# Altium integrated library Linear Technology Power Management PMIC Multifunction.IntLib: 360 symbols (part 39 of 42)
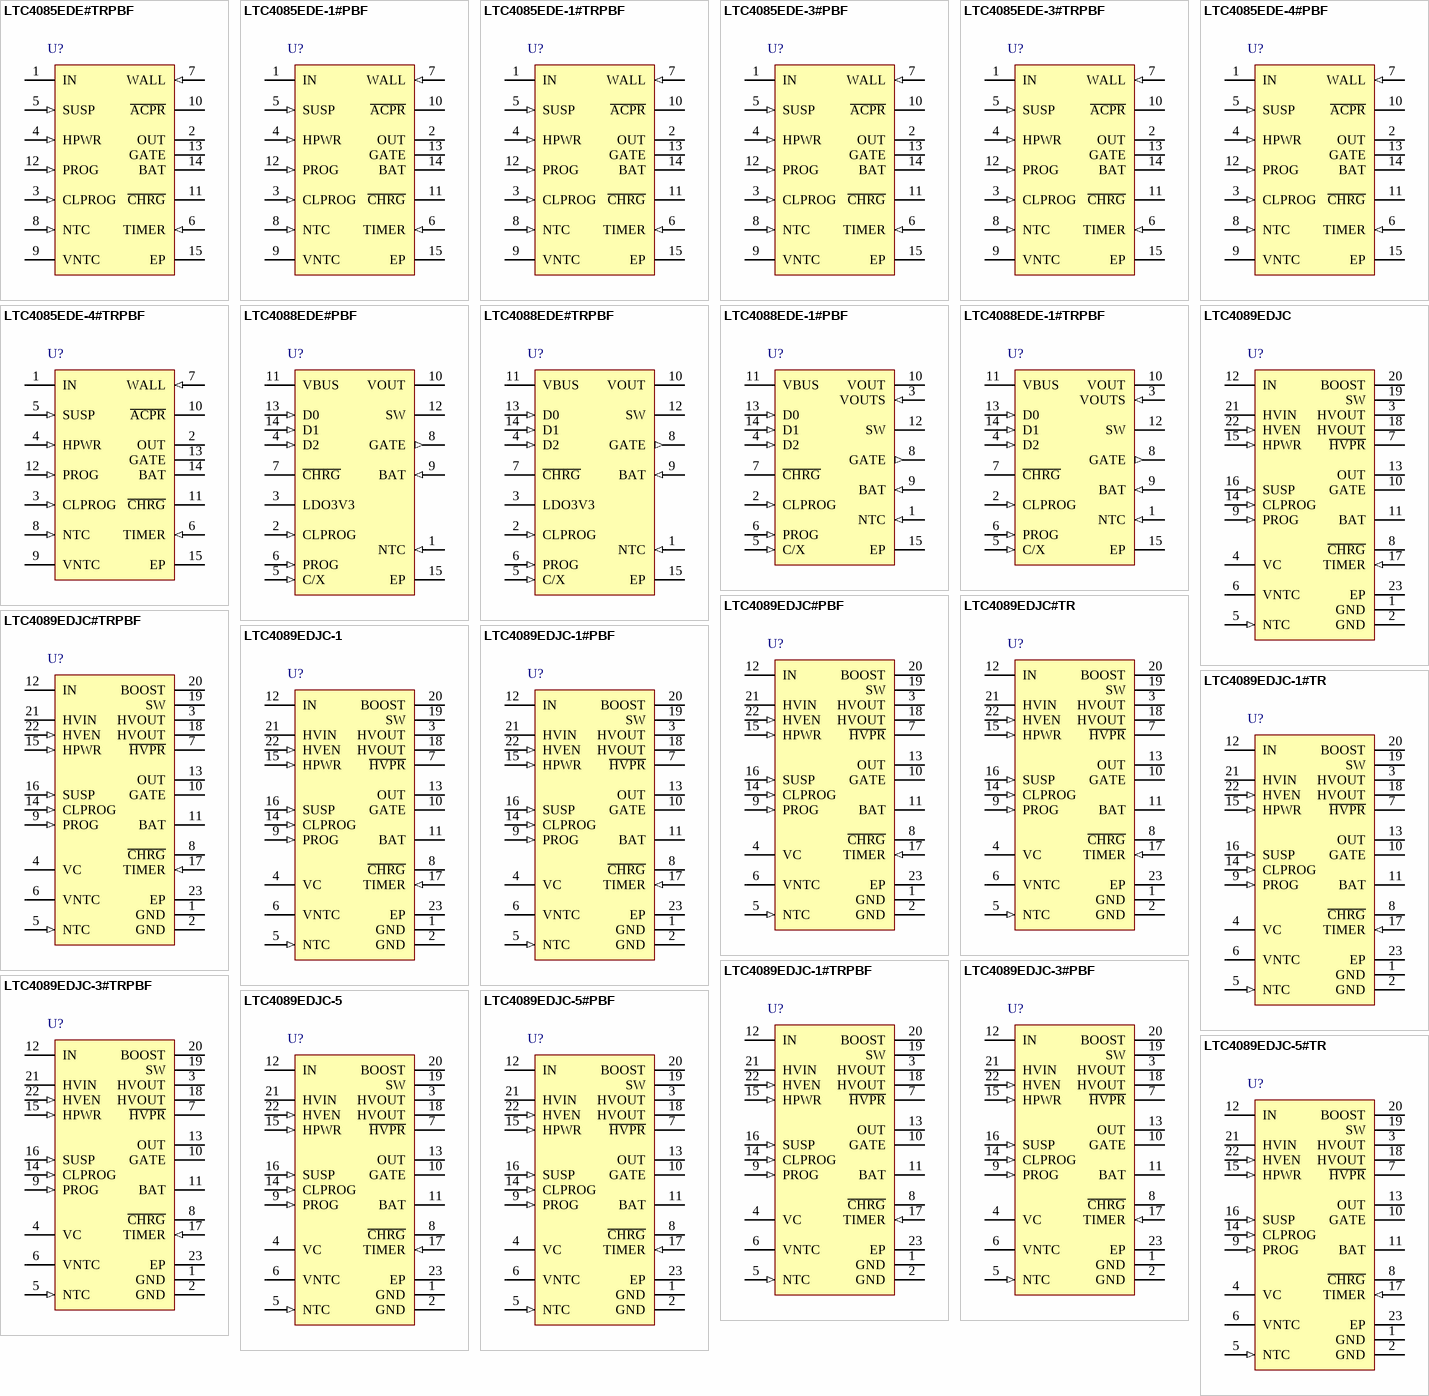
[diagram p56: symbols LTC4085EDE#TRPBF to LTC4089EDJC-5#TR]

## LTC4089EDJC-1#TRPBF
designator U?
USB Power Manager with High Voltage Switching Charger, 6 to 36 V Vin, 22-pin SON (DJC-22), -40 to 85 degC, Pb-Free, Tape and Reel; Manufacturer: Linear Technology; PartNumber: LTC4089EDJC-1#TRPBF; Number of Cells: 1; DatasheetVersion: Rev. A; PackageVersion: Jun-10; PackageReference: DJC22; PackageDescription: 22-Pin Plastic DFN, Body 6 x 3 mm, Pitch 0.5 mm; Supplier 1: Digi-Key; Supplier Part Number 1: LTC4089EDJC-1#TRPBF-ND; Number of Outputs: 1; Packing: Tape and Reel; RoHS: TRUE; Mounting Technology: Surface Mount; Code_JEDEC: MO-229; ComponentLink1Description: Manufacturer URL; ComponentLink1URL: http://www.linear.com/; ComponentLink2Description: Datasheet; ComponentLink2URL: http://cds.linear.com/docs/en/datasheet/40891fa.pdf; ComponentLink3Description: Package Specification; ComponentLink3URL: http://www.linear.com/docs/en/packaging/DFN_22_05-08-1714.pdf
footprint LT-DJC-22_V (SON, 22-Leads, Body 6x3mm, Pitch 0.5mm, Thermal Pad 5.35x1.65mm)
pins: 1 GND (power), 2 GND (power), 3 HVOUT (power), 4 VC, 5 NTC (in), 6 VNTC "Output Bias Voltage for NTC. A resistor from this pin to the NTC pin will bias the NTC thermistor.", 7 ~{HVPR} (oc), 8 ~{CHRG} (hiz) "Open-Drain Charge Status Output. When the battery is being charged, the C\H\R\G\ pin is pulled low by an internal N-channel MOSFET. When the timer runs out or the charge current drops below 10% of the programmed charge (See Datasheet)", 9 PROG (in), 10 GATE (hiz), 11 BAT (power), 12 IN (power) "Input Supply. Connect to USB supply, VBUS. Input current to this pin is limited to either 20% or 100% of the current programmed by the CLPROG pin as determined by the state of the HPWR pin. Charge current (to the BAT pin) (See Datasheet)", 13 OUT (power) "Voltage Output. This pin is used to provide controlled power to a USB device from either USB VBUS (IN), an external high voltage supply (HVIN), or the battery (BAT) when no other supply is present. The high voltage supply is (See Datasheet)", 14 CLPROG (in), 15 HPWR (in) "High Power Select. This logic input is used to control the input current limit. A voltage greater than 2.3V on the pin will set the input current limit to 100% of the current programmed by the CLPROG pin. A voltage less than (See Datasheet)", 16 SUSP (in), 17 TIMER (in), 18 HVOUT (power), 19 SW (power) "The SW pin is the output of the internal high voltage power switch. Connect this pin to the inductor, catch diode and boost capacitor.", 20 BOOST "The BOOST pin is used to provide a drive voltage, higher than the input voltage, to the internal bipolar NPN power switch.", 21 HVIN (power) "The HVIN pin supplies current to the internal high voltage regulator and to the internal high voltage power switch. The presence of a high voltage input takes priority over the USB VBUS input (i.e., when a high voltage input (See Datasheet)", 22 HVEN (in) "The HVEN pin is used to disable the high voltage input path. Tie to ground to disable the high voltage input or tie to at least 2.3V to enable the high voltage path. If this feature is not used, tie to the HVIN pin. This pin (See Datasheet)", 23 EP (power)

## LTC4089EDJC-3#PBF
designator U?
USB Power Manager with High Voltage Switching Charger, 6 to 36 V Vin, 22-pin SON (DJC-22), -40 to 85 degC, Pb-Free; Manufacturer: Linear Technology; PartNumber: LTC4089EDJC-3#PBF; Number of Cells: 1; Vin Max(V): 36; Vin Min(V): 6; PackageVersion: Jun-10; PackageReference: DJC22; PackageDescription: 22-Pin Plastic DFN, Body 6 x 3 mm, Pitch 0.5 mm; Supplier 1: Digi-Key; Supplier Part Number 1: LTC4089EDJC-3#PBF-ND; Supplier 2: Farnell; Supplier Part Number 2: 2322424; Supplier 3: Newark; Supplier Part Number 3: 72W1174; Number of Outputs: 1; RoHS: TRUE; Mounting Technology: Surface Mount; Code_JEDEC: MO-229; ComponentLink1Description: Manufacturer URL; ComponentLink1URL: http://www.linear.com/; ComponentLink2Description: Datasheet; ComponentLink2URL: http://cds.linear.com/docs/en/datasheet/40893f.pdf; ComponentLink3Description: Package Specification; ComponentLink3URL: http://www.linear.com/docs/en/packaging/DFN_22_05-08-1714.pdf
footprint LT-DJC-22_V (SON, 22-Leads, Body 6x3mm, Pitch 0.5mm, Thermal Pad 5.35x1.65mm)
pins: 1 GND (power), 2 GND (power), 3 HVOUT (power), 4 VC, 5 NTC (in), 6 VNTC "Output Bias Voltage for NTC. A resistor from this pin to the NTC pin will bias the NTC thermistor.", 7 ~{HVPR} (oc), 8 ~{CHRG} (hiz) "Open-Drain Charge Status Output. When the battery is being charged, the C\H\R\G\ pin is pulled low by an internal N-channel MOSFET. When the timer runs out or the charge current drops below 10% of the programmed charge (See Datasheet)", 9 PROG (in), 10 GATE (hiz), 11 BAT (power), 12 IN (power) "Input Supply. Connect to USB supply, VBUS. Input current to this pin is limited to either 20% or 100% of the current programmed by the CLPROG pin as determined by the state of the HPWR pin. Charge current (to the BAT pin) (See Datasheet)", 13 OUT (power) "Voltage Output. This pin is used to provide controlled power to a USB device from either USB VBUS (IN), an external high voltage supply (HVIN), or the battery (BAT) when no other supply is present. The high voltage supply is (See Datasheet)", 14 CLPROG (in), 15 HPWR (in) "High Power Select. This logic input is used to control the input current limit. A voltage greater than 2.3V on the pin will set the input current limit to 100% of the current programmed by the CLPROG pin. A voltage less than (See Datasheet)", 16 SUSP (in), 17 TIMER (in), 18 HVOUT (power), 19 SW (power) "The SW pin is the output of the internal high voltage power switch. Connect this pin to the inductor, catch diode and boost capacitor.", 20 BOOST "The BOOST pin is used to provide a drive voltage, higher than the input voltage, to the internal bipolar NPN power switch.", 21 HVIN (power) "The HVIN pin supplies current to the internal high voltage regulator and to the internal high voltage power switch. The presence of a high voltage input takes priority over the USB VBUS input (i.e., when a high voltage input (See Datasheet)", 22 HVEN (in) "The HVEN pin is used to disable the high voltage input path. Tie to ground to disable the high voltage input or tie to at least 2.3V to enable the high voltage path. If this feature is not used, tie to the HVIN pin. This pin (See Datasheet)", 23 EP (power)

## LTC4089EDJC-3#TRPBF
designator U?
USB Power Manager with High Voltage Switching Charger, 6 to 36 V Vin, 22-pin SON (DJC-22), -40 to 85 degC, Pb-Free, Tape and Reel; Manufacturer: Linear Technology; PartNumber: LTC4089EDJC-3#TRPBF; Number of Cells: 1; Vin Max(V): 36; Vin Min(V): 6; PackageVersion: Jun-10; PackageReference: DJC22; PackageDescription: 22-Pin Plastic DFN, Body 6 x 3 mm, Pitch 0.5 mm; Supplier 1: Digi-Key; Supplier Part Number 1: LTC4089EDJC-3#TRPBF-ND; Supplier 2: Newark; Supplier Part Number 2: 72W1175; Number of Outputs: 1; Packing: Tape and Reel; RoHS: TRUE; Mounting Technology: Surface Mount; Code_JEDEC: MO-229; ComponentLink1Description: Manufacturer URL; ComponentLink1URL: http://www.linear.com/; ComponentLink2Description: Datasheet; ComponentLink2URL: http://cds.linear.com/docs/en/datasheet/40893f.pdf; ComponentLink3Description: Package Specification; ComponentLink3URL: http://www.linear.com/docs/en/packaging/DFN_22_05-08-1714.pdf
footprint LT-DJC-22_V (SON, 22-Leads, Body 6x3mm, Pitch 0.5mm, Thermal Pad 5.35x1.65mm)
pins: 1 GND (power), 2 GND (power), 3 HVOUT (power), 4 VC, 5 NTC (in), 6 VNTC "Output Bias Voltage for NTC. A resistor from this pin to the NTC pin will bias the NTC thermistor.", 7 ~{HVPR} (oc), 8 ~{CHRG} (hiz) "Open-Drain Charge Status Output. When the battery is being charged, the C\H\R\G\ pin is pulled low by an internal N-channel MOSFET. When the timer runs out or the charge current drops below 10% of the programmed charge (See Datasheet)", 9 PROG (in), 10 GATE (hiz), 11 BAT (power), 12 IN (power) "Input Supply. Connect to USB supply, VBUS. Input current to this pin is limited to either 20% or 100% of the current programmed by the CLPROG pin as determined by the state of the HPWR pin. Charge current (to the BAT pin) (See Datasheet)", 13 OUT (power) "Voltage Output. This pin is used to provide controlled power to a USB device from either USB VBUS (IN), an external high voltage supply (HVIN), or the battery (BAT) when no other supply is present. The high voltage supply is (See Datasheet)", 14 CLPROG (in), 15 HPWR (in) "High Power Select. This logic input is used to control the input current limit. A voltage greater than 2.3V on the pin will set the input current limit to 100% of the current programmed by the CLPROG pin. A voltage less than (See Datasheet)", 16 SUSP (in), 17 TIMER (in), 18 HVOUT (power), 19 SW (power) "The SW pin is the output of the internal high voltage power switch. Connect this pin to the inductor, catch diode and boost capacitor.", 20 BOOST "The BOOST pin is used to provide a drive voltage, higher than the input voltage, to the internal bipolar NPN power switch.", 21 HVIN (power) "The HVIN pin supplies current to the internal high voltage regulator and to the internal high voltage power switch. The presence of a high voltage input takes priority over the USB VBUS input (i.e., when a high voltage input (See Datasheet)", 22 HVEN (in) "The HVEN pin is used to disable the high voltage input path. Tie to ground to disable the high voltage input or tie to at least 2.3V to enable the high voltage path. If this feature is not used, tie to the HVIN pin. This pin (See Datasheet)", 23 EP (power)

## LTC4089EDJC-5
designator U?
USB Power Manager with High Voltage Switching Charger, Fixed 5 V Output, 6 to 36 V Vin, 22-pin SON (DJC-22), -40 to 85 degC; Manufacturer: Linear Technology; PartNumber: LTC4089EDJC-5; Number of Cells: 1; DatasheetVersion: Rev. C; PackageVersion: Jun-10; PackageReference: DJC22; PackageDescription: 22-Pin Plastic DFN, Body 6 x 3 mm, Pitch 0.5 mm; Number of Outputs: 1; RoHS: FALSE; Mounting Technology: Surface Mount; Code_JEDEC: MO-229; ComponentLink1Description: Manufacturer URL; ComponentLink1URL: http://www.linear.com/; ComponentLink2Description: Datasheet; ComponentLink2URL: http://cds.linear.com/docs/en/datasheet/40895fc.pdf; ComponentLink3Description: Package Specification; ComponentLink3URL: http://www.linear.com/docs/en/packaging/DFN_22_05-08-1714.pdf
footprint LT-DJC-22_V (SON, 22-Leads, Body 6x3mm, Pitch 0.5mm, Thermal Pad 5.35x1.65mm)
pins: 1 GND (power), 2 GND (power), 3 HVOUT (power), 4 VC, 5 NTC (in), 6 VNTC "Output Bias Voltage for NTC. A resistor from this pin to the NTC pin will bias the NTC thermistor.", 7 ~{HVPR} (oc), 8 ~{CHRG} (hiz) "Open-Drain Charge Status Output. When the battery is being charged, the C\H\R\G\ pin is pulled low by an internal N-channel MOSFET. When the timer runs out or the charge current drops below 10% of the programmed charge (See Datasheet)", 9 PROG (in), 10 GATE (hiz), 11 BAT (power), 12 IN (power) "Input Supply. Connect to USB supply, VBUS. Input current to this pin is limited to either 20% or 100% of the current programmed by the CLPROG pin as determined by the state of the HPWR pin. Charge current (to the BAT pin) (See Datasheet)", 13 OUT (power) "Voltage Output. This pin is used to provide controlled power to a USB device from either USB VBUS (IN), an external high voltage supply (HVIN), or the battery (BAT) when no other supply is present. The high voltage supply is (See Datasheet)", 14 CLPROG (in), 15 HPWR (in) "High Power Select. This logic input is used to control the input current limit. A voltage greater than 2.3V on the pin will set the input current limit to 100% of the current programmed by the CLPROG pin. A voltage less than (See Datasheet)", 16 SUSP (in), 17 TIMER (in), 18 HVOUT (power), 19 SW (power) "The SW pin is the output of the internal high voltage power switch. Connect this pin to the inductor, catch diode and boost capacitor.", 20 BOOST "The BOOST pin is used to provide a drive voltage, higher than the input voltage, to the internal bipolar NPN power switch.", 21 HVIN (power) "The HVIN pin supplies current to the internal high voltage regulator and to the internal high voltage power switch. The presence of a high voltage input takes priority over the USB VBUS input (i.e., when a high voltage input (See Datasheet)", 22 HVEN (in) "The HVEN pin is used to disable the high voltage input path. Tie to ground to disable the high voltage input or tie to at least 2.3V to enable the high voltage path. If this feature is not used, tie to the HVIN pin. This pin (See Datasheet)", 23 EP (power)

## LTC4089EDJC-5#PBF
designator U?
USB Power Manager with High Voltage Switching Charger, Fixed 5 V Output, 6 to 36 V Vin, 22-pin SON (DJC-22), -40 to 85 degC, Pb-Free; Manufacturer: Linear Technology; PartNumber: LTC4089EDJC-5#PBF; Number of Cells: 1; DatasheetVersion: Rev. C; PackageVersion: Jun-10; PackageReference: DJC22; PackageDescription: 22-Pin Plastic DFN, Body 6 x 3 mm, Pitch 0.5 mm; Supplier 1: Digi-Key; Supplier Part Number 1: LTC4089EDJC-5#PBF-ND; Number of Outputs: 1; RoHS: TRUE; Mounting Technology: Surface Mount; Code_JEDEC: MO-229; ComponentLink1Description: Manufacturer URL; ComponentLink1URL: http://www.linear.com/; ComponentLink2Description: Datasheet; ComponentLink2URL: http://cds.linear.com/docs/en/datasheet/40895fc.pdf; ComponentLink3Description: Package Specification; ComponentLink3URL: http://www.linear.com/docs/en/packaging/DFN_22_05-08-1714.pdf
footprint LT-DJC-22_V (SON, 22-Leads, Body 6x3mm, Pitch 0.5mm, Thermal Pad 5.35x1.65mm)
pins: 1 GND (power), 2 GND (power), 3 HVOUT (power), 4 VC, 5 NTC (in), 6 VNTC "Output Bias Voltage for NTC. A resistor from this pin to the NTC pin will bias the NTC thermistor.", 7 ~{HVPR} (oc), 8 ~{CHRG} (hiz) "Open-Drain Charge Status Output. When the battery is being charged, the C\H\R\G\ pin is pulled low by an internal N-channel MOSFET. When the timer runs out or the charge current drops below 10% of the programmed charge (See Datasheet)", 9 PROG (in), 10 GATE (hiz), 11 BAT (power), 12 IN (power) "Input Supply. Connect to USB supply, VBUS. Input current to this pin is limited to either 20% or 100% of the current programmed by the CLPROG pin as determined by the state of the HPWR pin. Charge current (to the BAT pin) (See Datasheet)", 13 OUT (power) "Voltage Output. This pin is used to provide controlled power to a USB device from either USB VBUS (IN), an external high voltage supply (HVIN), or the battery (BAT) when no other supply is present. The high voltage supply is (See Datasheet)", 14 CLPROG (in), 15 HPWR (in) "High Power Select. This logic input is used to control the input current limit. A voltage greater than 2.3V on the pin will set the input current limit to 100% of the current programmed by the CLPROG pin. A voltage less than (See Datasheet)", 16 SUSP (in), 17 TIMER (in), 18 HVOUT (power), 19 SW (power) "The SW pin is the output of the internal high voltage power switch. Connect this pin to the inductor, catch diode and boost capacitor.", 20 BOOST "The BOOST pin is used to provide a drive voltage, higher than the input voltage, to the internal bipolar NPN power switch.", 21 HVIN (power) "The HVIN pin supplies current to the internal high voltage regulator and to the internal high voltage power switch. The presence of a high voltage input takes priority over the USB VBUS input (i.e., when a high voltage input (See Datasheet)", 22 HVEN (in) "The HVEN pin is used to disable the high voltage input path. Tie to ground to disable the high voltage input or tie to at least 2.3V to enable the high voltage path. If this feature is not used, tie to the HVIN pin. This pin (See Datasheet)", 23 EP (power)

## LTC4089EDJC-5#TR
designator U?
USB Power Manager with High Voltage Switching Charger, Fixed 5 V Output, 6 to 36 V Vin, 22-pin SON (DJC-22), -40 to 85 degC, Tape and Reel; Manufacturer: Linear Technology; PartNumber: LTC4089EDJC-5#TR; Number of Cells: 1; Vin Max(V): 36; Vin Min(V): 6; DatasheetVersion: Rev. C; PackageVersion: Jun-10; PackageReference: DJC22; PackageDescription: 22-Pin Plastic DFN, Body 6 x 3 mm, Pitch 0.5 mm; Number of Outputs: 1; Packing: Tape and Reel; RoHS: FALSE; Mounting Technology: Surface Mount; Code_JEDEC: MO-229; ComponentLink1Description: Manufacturer URL; ComponentLink1URL: http://www.linear.com/; ComponentLink2Description: Datasheet; ComponentLink2URL: http://cds.linear.com/docs/en/datasheet/40895fc.pdf; ComponentLink3Description: Package Specification; ComponentLink3URL: http://www.linear.com/docs/en/packaging/DFN_22_05-08-1714.pdf
footprint LT-DJC-22_V (SON, 22-Leads, Body 6x3mm, Pitch 0.5mm, Thermal Pad 5.35x1.65mm)
pins: 1 GND (power), 2 GND (power), 3 HVOUT (power), 4 VC, 5 NTC (in), 6 VNTC "Output Bias Voltage for NTC. A resistor from this pin to the NTC pin will bias the NTC thermistor.", 7 ~{HVPR} (oc), 8 ~{CHRG} (hiz) "Open-Drain Charge Status Output. When the battery is being charged, the C\H\R\G\ pin is pulled low by an internal N-channel MOSFET. When the timer runs out or the charge current drops below 10% of the programmed charge (See Datasheet)", 9 PROG (in), 10 GATE (hiz), 11 BAT (power), 12 IN (power) "Input Supply. Connect to USB supply, VBUS. Input current to this pin is limited to either 20% or 100% of the current programmed by the CLPROG pin as determined by the state of the HPWR pin. Charge current (to the BAT pin) (See Datasheet)", 13 OUT (power) "Voltage Output. This pin is used to provide controlled power to a USB device from either USB VBUS (IN), an external high voltage supply (HVIN), or the battery (BAT) when no other supply is present. The high voltage supply is (See Datasheet)", 14 CLPROG (in), 15 HPWR (in) "High Power Select. This logic input is used to control the input current limit. A voltage greater than 2.3V on the pin will set the input current limit to 100% of the current programmed by the CLPROG pin. A voltage less than (See Datasheet)", 16 SUSP (in), 17 TIMER (in), 18 HVOUT (power), 19 SW (power) "The SW pin is the output of the internal high voltage power switch. Connect this pin to the inductor, catch diode and boost capacitor.", 20 BOOST "The BOOST pin is used to provide a drive voltage, higher than the input voltage, to the internal bipolar NPN power switch.", 21 HVIN (power) "The HVIN pin supplies current to the internal high voltage regulator and to the internal high voltage power switch. The presence of a high voltage input takes priority over the USB VBUS input (i.e., when a high voltage input (See Datasheet)", 22 HVEN (in) "The HVEN pin is used to disable the high voltage input path. Tie to ground to disable the high voltage input or tie to at least 2.3V to enable the high voltage path. If this feature is not used, tie to the HVIN pin. This pin (See Datasheet)", 23 EP (power)

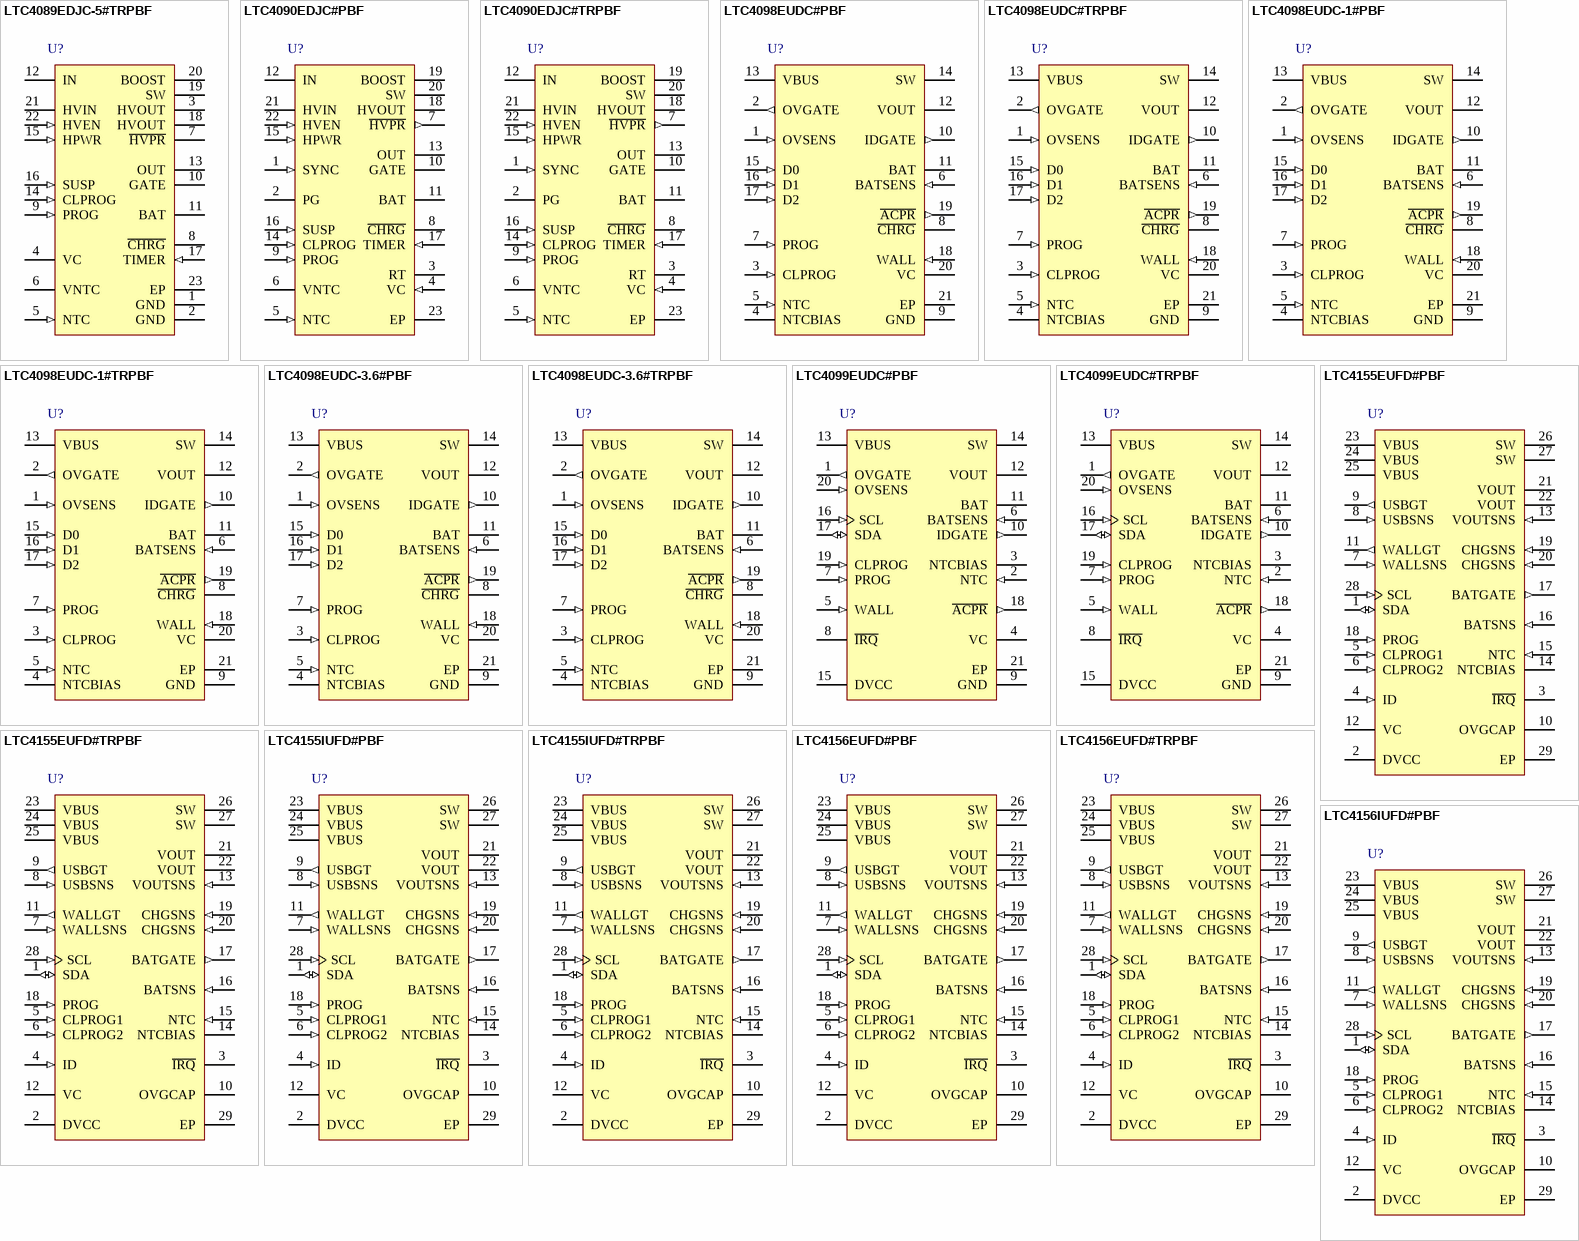
[diagram p17: symbols LTC4089EDJC-5#TRPBF to LTC4156IUFD#PBF]

## LTC4089EDJC-5#TRPBF
designator U?
USB Power Manager with High Voltage Switching Charger, Fixed 5 V Output, 6 to 36 V Vin, 22-pin SON (DJC-22), -40 to 85 degC, Pb-Free, Tape and Reel; Manufacturer: Linear Technology; PartNumber: LTC4089EDJC-5#TRPBF; Number of Cells: 1; Vin Max(V): 36; Vin Min(V): 6; DatasheetVersion: Rev. C; PackageVersion: Jun-10; PackageReference: DJC22; PackageDescription: 22-Pin Plastic DFN, Body 6 x 3 mm, Pitch 0.5 mm; Supplier 1: Digi-Key; Supplier Part Number 1: LTC4089EDJC-5#TRPBF-ND; Number of Outputs: 1; Packing: Tape and Reel; RoHS: TRUE; Mounting Technology: Surface Mount; Code_JEDEC: MO-229; ComponentLink1Description: Manufacturer URL; ComponentLink1URL: http://www.linear.com/; ComponentLink2Description: Datasheet; ComponentLink2URL: http://cds.linear.com/docs/en/datasheet/40895fc.pdf; ComponentLink3Description: Package Specification; ComponentLink3URL: http://www.linear.com/docs/en/packaging/DFN_22_05-08-1714.pdf
footprint LT-DJC-22_V (SON, 22-Leads, Body 6x3mm, Pitch 0.5mm, Thermal Pad 5.35x1.65mm)
pins: 1 GND (power), 2 GND (power), 3 HVOUT (power), 4 VC, 5 NTC (in), 6 VNTC "Output Bias Voltage for NTC. A resistor from this pin to the NTC pin will bias the NTC thermistor.", 7 ~{HVPR} (oc), 8 ~{CHRG} (hiz) "Open-Drain Charge Status Output. When the battery is being charged, the C\H\R\G\ pin is pulled low by an internal N-channel MOSFET. When the timer runs out or the charge current drops below 10% of the programmed charge (See Datasheet)", 9 PROG (in), 10 GATE (hiz), 11 BAT (power), 12 IN (power) "Input Supply. Connect to USB supply, VBUS. Input current to this pin is limited to either 20% or 100% of the current programmed by the CLPROG pin as determined by the state of the HPWR pin. Charge current (to the BAT pin) (See Datasheet)", 13 OUT (power) "Voltage Output. This pin is used to provide controlled power to a USB device from either USB VBUS (IN), an external high voltage supply (HVIN), or the battery (BAT) when no other supply is present. The high voltage supply is (See Datasheet)", 14 CLPROG (in), 15 HPWR (in) "High Power Select. This logic input is used to control the input current limit. A voltage greater than 2.3V on the pin will set the input current limit to 100% of the current programmed by the CLPROG pin. A voltage less than (See Datasheet)", 16 SUSP (in), 17 TIMER (in), 18 HVOUT (power), 19 SW (power) "The SW pin is the output of the internal high voltage power switch. Connect this pin to the inductor, catch diode and boost capacitor.", 20 BOOST "The BOOST pin is used to provide a drive voltage, higher than the input voltage, to the internal bipolar NPN power switch.", 21 HVIN (power) "The HVIN pin supplies current to the internal high voltage regulator and to the internal high voltage power switch. The presence of a high voltage input takes priority over the USB VBUS input (i.e., when a high voltage input (See Datasheet)", 22 HVEN (in) "The HVEN pin is used to disable the high voltage input path. Tie to ground to disable the high voltage input or tie to at least 2.3V to enable the high voltage path. If this feature is not used, tie to the HVIN pin. This pin (See Datasheet)", 23 EP (power)

## LTC4090EDJC#PBF
designator U?
USB Power Manager + Triple Sync Buck, 6 to 60 V Vin, 22-pin SON (DJC-22), -40 to 85 degC, Pb-Free; Manufacturer: Linear Technology; PartNumber: LTC4090EDJC#PBF; Number of Cells: 1; Vin Max(V): 60; Vin Min(V): 6; DatasheetVersion: Rev. C; PackageVersion: Jun-10; PackageReference: DJC22; PackageDescription: 22-Pin Plastic DFN, Body 6 x 3 mm, Pitch 0.5 mm; Supplier 1: Digi-Key; Supplier Part Number 1: LTC4090EDJC#PBF-ND; Supplier 2: Farnell; Supplier Part Number 2: 1663728; Supplier 3: Newark; Supplier Part Number 3: 56M8725; Number of Outputs: 1; RoHS: TRUE; Mounting Technology: Surface Mount; Code_JEDEC: MO-229; ComponentLink1Description: Manufacturer URL; ComponentLink1URL: http://www.linear.com/; ComponentLink2Description: Datasheet; ComponentLink2URL: http://cds.linear.com/docs/en/datasheet/4090fc.pdf; ComponentLink3Description: Package Specification; ComponentLink3URL: http://www.linear.com/docs/en/packaging/DFN_22_05-08-1714.pdf
footprint LT-DJC-22_V (SON, 22-Leads, Body 6x3mm, Pitch 0.5mm, Thermal Pad 5.35x1.65mm)
pins: 1 SYNC (in) "External Clock Synchronization Input. See synchronizing section in the Applications Information section. Ground pin when not used.", 2 PG (oc) "Open Collector Output of an Internal Comparator. PG remains low until the HVOUT pin is above 2.8 V. PG output is valid when HVIN is above 3.6 V and HVEN is high.", 3 RT "Oscillator Resistor Input. Connecting a resistor to ground from this pin sets the switching frequency.", 4 VC (in) "High Voltage Buck Regulator Control Pin. The voltage on this pin controls the peak switch current in the high voltage regulator. Tie an RC network from this pin to ground to compensate the control loop.", 5 NTC (in) "Input to the NTC Thermistor Monitoring Circuits. The NTC pin connects to a negative temperature coefficient thermistor which is typically co-packaged with the battery pack to determine if the battery is too hot or too cold (See Datasheet)", 6 VNTC "Output Bias Voltage for NTC. A resistor from this pin to the NTC pin will bias the NTC thermistor.", 7 ~{HVPR} (out) "High Voltage Present Output (Active Low). A low on this pin indicates that the high voltage regulator has sufficient voltage to charge the battery. This feature is enabled if power is present on HVIN, IN, or BAT (i.e., above (See Datasheet)", 8 ~{CHRG} (hiz) "Open-Drain Charge Status Output. When the battery is being charged, the C\H\R\G\ pin is pulled low by an internal N-channel MOSFET. When the timer runs out or the charge current drops below 10% of the programmed charge (See Datasheet)", 9 PROG (in) "Charge Current Program Pin. Connecting a resistor from PROG to ground programs the charge current.", 10 GATE (hiz) "External Ideal Diode Gate Connection. This pin controls the gate of an optional external P-channel MOSFET transistor used to supplement the internal ideal diode. The source of the P-channel MOSFET should be connected to OUT (See Datasheet)", 11 BAT (power) "Single-Cell Li-Ion Battery. This pin is used as an output when charging the battery and as an input when supplying power to OUT. When the OUT pin potential drops below the BAT pin potential, an ideal diode function connects (See Datasheet)", 12 IN (power) "Input Supply. Connect to USB supply, VBUS . Input current to this pin is limited to either 20% or 100% of the current programmed by the CLPROG pin as deter- mined by the state of the HPWR pin. Charge current (to the BAT pin) (See Datasheet)", 13 OUT (power) "Voltage Output. This pin is used to provide controlled power to a USB device from either USB VBUS (IN), an external high voltage supply (HVIN), or the battery (BAT) when no other supply is present. The high voltage supply is (See Datasheet)", 14 CLPROG (in) "Current Limit Program and Input Current Monitor. Connecting a resistor, RCLPROG, to ground programs the input to output current limit.", 15 HPWR (in) "High Power Select. This logic input is used to control the input current limit. A voltage greater than 1.2V on the pin will set the input current limit to 100% of the current programmed by the CLPROG pin. A voltage less than (See Datasheet)", 16 SUSP (in) "Suspend Mode Input. Pulling this pin above 1.2 V will disable the power path from IN to OUT. The supply current from IN will be reduced to comply with the USB specification for suspend mode. Both the ability to charge the (See Datasheet)", 17 TIMER (in) "Timer Capacitor. Placing a capacitor, CTIMER , to GND sets the timer period.", 18 HVOUT (power) "Voltage Output of the High Voltage Regulator.", 19 BOOST "This pin is used to provide drive voltage, higher than the input voltage, to the internal bipolar NPN power switch.", 20 SW (power) "The SW pin is the output of the internal high voltage power switch. Connect this pin to the inductor, catch diode and boost capacitor.", 21 HVIN (power) "High Voltage Regulator Input.", 22 HVEN (in) "High Voltage Regulator Enable Input. The HVEN pin is used to disable the high voltage input path. Tie to ground to disable the high voltage input or tie to at least 2.3 V to enable the high voltage path. If this feature is (See Datasheet)", 23 EP (power) "Ground. The exposed package pad is ground and must be soldered to the PC board for proper functionality and for maximum heat transfer (use several vias directly under the LTC4090/LTC4090-5)."

## LTC4090EDJC#TRPBF
designator U?
USB Power Manager + Triple Sync Buck, 6 to 60 V Vin, 22-pin SON (DJC-22), -40 to 85 degC, Pb-Free, Tape and Reel; Manufacturer: Linear Technology; PartNumber: LTC4090EDJC#TRPBF; Number of Cells: 1; Vin Max(V): 60; Vin Min(V): 6; DatasheetVersion: Rev. C; PackageVersion: Jun-10; PackageReference: DJC22; PackageDescription: 22-Pin Plastic DFN, Body 6 x 3 mm, Pitch 0.5 mm; Supplier 1: Digi-Key; Supplier Part Number 1: LTC4090EDJC#TRPBF-ND; Supplier 2: Newark; Supplier Part Number 2: 56M8726; Number of Outputs: 1; Packing: Tape and Reel; RoHS: TRUE; Mounting Technology: Surface Mount; Code_JEDEC: MO-229; ComponentLink1Description: Manufacturer URL; ComponentLink1URL: http://www.linear.com/; ComponentLink2Description: Datasheet; ComponentLink2URL: http://cds.linear.com/docs/en/datasheet/4090fc.pdf; ComponentLink3Description: Package Specification; ComponentLink3URL: http://www.linear.com/docs/en/packaging/DFN_22_05-08-1714.pdf
footprint LT-DJC-22_V (SON, 22-Leads, Body 6x3mm, Pitch 0.5mm, Thermal Pad 5.35x1.65mm)
pins: 1 SYNC (in) "External Clock Synchronization Input. See synchronizing section in the Applications Information section. Ground pin when not used.", 2 PG (oc) "Open Collector Output of an Internal Comparator. PG remains low until the HVOUT pin is above 2.8 V. PG output is valid when HVIN is above 3.6 V and HVEN is high.", 3 RT "Oscillator Resistor Input. Connecting a resistor to ground from this pin sets the switching frequency.", 4 VC (in) "High Voltage Buck Regulator Control Pin. The voltage on this pin controls the peak switch current in the high voltage regulator. Tie an RC network from this pin to ground to compensate the control loop.", 5 NTC (in) "Input to the NTC Thermistor Monitoring Circuits. The NTC pin connects to a negative temperature coefficient thermistor which is typically co-packaged with the battery pack to determine if the battery is too hot or too cold (See Datasheet)", 6 VNTC "Output Bias Voltage for NTC. A resistor from this pin to the NTC pin will bias the NTC thermistor.", 7 ~{HVPR} (out) "High Voltage Present Output (Active Low). A low on this pin indicates that the high voltage regulator has sufficient voltage to charge the battery. This feature is enabled if power is present on HVIN, IN, or BAT (i.e., above (See Datasheet)", 8 ~{CHRG} (hiz) "Open-Drain Charge Status Output. When the battery is being charged, the C\H\R\G\ pin is pulled low by an internal N-channel MOSFET. When the timer runs out or the charge current drops below 10% of the programmed charge (See Datasheet)", 9 PROG (in) "Charge Current Program Pin. Connecting a resistor from PROG to ground programs the charge current.", 10 GATE (hiz) "External Ideal Diode Gate Connection. This pin controls the gate of an optional external P-channel MOSFET transistor used to supplement the internal ideal diode. The source of the P-channel MOSFET should be connected to OUT (See Datasheet)", 11 BAT (power) "Single-Cell Li-Ion Battery. This pin is used as an output when charging the battery and as an input when supplying power to OUT. When the OUT pin potential drops below the BAT pin potential, an ideal diode function connects (See Datasheet)", 12 IN (power) "Input Supply. Connect to USB supply, VBUS . Input current to this pin is limited to either 20% or 100% of the current programmed by the CLPROG pin as deter- mined by the state of the HPWR pin. Charge current (to the BAT pin) (See Datasheet)", 13 OUT (power) "Voltage Output. This pin is used to provide controlled power to a USB device from either USB VBUS (IN), an external high voltage supply (HVIN), or the battery (BAT) when no other supply is present. The high voltage supply is (See Datasheet)", 14 CLPROG (in) "Current Limit Program and Input Current Monitor. Connecting a resistor, RCLPROG, to ground programs the input to output current limit.", 15 HPWR (in) "High Power Select. This logic input is used to control the input current limit. A voltage greater than 1.2V on the pin will set the input current limit to 100% of the current programmed by the CLPROG pin. A voltage less than (See Datasheet)", 16 SUSP (in) "Suspend Mode Input. Pulling this pin above 1.2 V will disable the power path from IN to OUT. The supply current from IN will be reduced to comply with the USB specification for suspend mode. Both the ability to charge the (See Datasheet)", 17 TIMER (in) "Timer Capacitor. Placing a capacitor, CTIMER , to GND sets the timer period.", 18 HVOUT (power) "Voltage Output of the High Voltage Regulator.", 19 BOOST "This pin is used to provide drive voltage, higher than the input voltage, to the internal bipolar NPN power switch.", 20 SW (power) "The SW pin is the output of the internal high voltage power switch. Connect this pin to the inductor, catch diode and boost capacitor.", 21 HVIN (power) "High Voltage Regulator Input.", 22 HVEN (in) "High Voltage Regulator Enable Input. The HVEN pin is used to disable the high voltage input path. Tie to ground to disable the high voltage input or tie to at least 2.3 V to enable the high voltage path. If this feature is (See Datasheet)", 23 EP (power) "Ground. The exposed package pad is ground and must be soldered to the PC board for proper functionality and for maximum heat transfer (use several vias directly under the LTC4090/LTC4090-5)."

## LTC4098EUDC#PBF
designator U?
USB Compatible Switching Power Manager / Li-Ion Charger with Overvoltage Protection, 4.35 to 5.5 V Vin, 20-pin QFN (UDC-20), -40 to 85 degC, Pb-Free; Manufacturer: Linear Technology; PartNumber: LTC4098EUDC#PBF; Number of Cells: 1; Vin Max(V): 5.5; Vin Min(V): 4.35; DatasheetVersion: Rev. C; PackageVersion: Rev. Ø, 06/2010; PackageReference: UDC20; PackageDescription: 20-Pin Plastic QFN, Body 3 x 4 mm, Pitch 0.5 mm; Supplier 1: Digi-Key; Supplier Part Number 1: LTC4098EUDC#PBF-ND; Supplier 2: Newark; Supplier Part Number 2: 84R6716; Number of Outputs: 1; RoHS: TRUE; Mounting Technology: Surface Mount; ComponentLink1Description: Manufacturer URL; ComponentLink1URL: http://www.linear.com/; ComponentLink2Description: Datasheet; ComponentLink2URL: http://cds.linear.com/docs/en/datasheet/40981fc.pdf; ComponentLink3Description: Package Specification; ComponentLink3URL: http://cds.linear.com/docs/en/packaging/QFN_20_05-08-1742.pdf
footprint LT-UDC-20_N (QFN, 20-Leads, Body 4.1x3.1mm, Pitch 0.5mm, Thermal Pad 2.65x1.65mm, IPC Medium Density)
footprint LT-UDC-20_L (QFN, 20-Leads, Body 4.1x3.1mm, Pitch 0.5mm, Thermal Pad 2.65x1.65mm, IPC High Density)
footprint LT-UDC-20_M (QFN, 20-Leads, Body 4.1x3.1mm, Pitch 0.5mm, Thermal Pad 2.65x1.65mm, IPC Low Density)
pins: 1 OVSENS (in) "Overvoltage Protection Sense Input. OVSENS should be connected through a 6.04k resistor to the input power connector and the drain of an external N-channel MOS pass transistor. When the voltage on this pin exceeds a preset (See Datasheet)", 2 OVGATE (out) "Overvoltage Protection Gate Output. Connect OVGATE to the gate pin of an external N-channel MOS pass transistor. The source of the transistor should be connected to VBUS and the drain should be connected to the product’(See Datasheet)", 3 CLPROG (in) "USB Current Limit Program and Monitor Pin. A 1% resistor from CLPROG to ground determines the upper limit of the current drawn from the VBUS pin. A precise fraction of the input current, hCLPROG, is sent to the CLPROG pin (See Datasheet)", 4 NTCBIAS "NTC Thermistor Bias Output. If NTC operation is desired, connect a bias resistor between NTCBIAS and NTC, and an NTC thermistor between NTC and GND. To disable NTC operation, connect NTC to GND and leave NTCBIAS open.", 5 NTC (in) "Input to the NTC Thermistor Monitoring Circuits. The NTC pin connects to a negative temperature coefficient thermistor which is typically co-packaged with the battery pack to determine if the battery is too hot or too cold (See Datasheet)", 6 BATSENS (in) "Battery Voltage Sense Input. For proper operation, this pin must always be connected to BAT. For best performance, connect BATSENS to BAT physically close to the Li-Ion cell.", 7 PROG (in) "Charge Current Program and Charge Current Monitor Pin. Connecting a 1% resistor from PROG to ground programs the charge current. If sufficient input power is available in constant-current mode, this pin servos to 1V. The (See Datasheet)", 8 ~{CHRG} (hiz) "Open-Drain Charge Status Output. The C\H\R\G\ pin indicates the status of the battery charger. Four possible states are represented by C\H\R\G\: charging, not charging, unresponsive battery and battery temperature out of (See Datasheet)", 9 GND (power) "Exposed Pad and pin must be soldered to the PCB to provide a low electrical and thermal impedance connection to ground.", 10 IDGATE (out) "Ideal Diode Amplifier Output. This pincontrols the gate of an external P-channel MOSFET transistor used to supplement the internal ideal diode. The source of the P-channel MOSFET should be connected to VOUT and the drain (See Datasheet)", 11 BAT (power) "Single-Cell Li-Ion Battery Pin. Depending on available power and load, a Li-Ion battery on BAT will either deliver system power to VOUT through the ideal diode or be charged from the battery charger. The LTC4098 will charge (See Datasheet)", 12 VOUT (power) "Output Voltage of the Switching PowerPath Controller and Input Voltage of the Battery Charger. The majority of the portable product should be powered from VOUT. The LTC4098/LTC4098-1 will partition the available power (See Datasheet)", 13 VBUS (power) "Input Voltage for the Switching PowerPath Controller. VBUS will usually be connected to the USB port of a computer or a DC output wall adapter. VBUS should be bypassed with a low impedance multilayer ceramic capacitor.", 14 SW (power) "The SW pin delivers power from VBUS to VOUT via the step-down switching regulator. An inductor should be connected from SW to VOUT. See the Applications Information section for a discussion of inductance value and current (See Datasheet)", 15 D0 (in) "Mode Select Input Pin. D0, in combination with the D1 pin and the D2 pin, controls the current limit and battery charger functions of the LTC4098/LTC4098-1 (see Table 1). This pin is pulled low by a weak current sink.", 16 D1 (in) "Mode Select Input Pin. D1, in combination with the D0 pin and the D2 pin, controls the current limit and battery charger functions of the LTC4098/LTC4098-1 (see Table 1). This pin is pulled low by a weak current sink.", 17 D2 (in) "Mode Select Input Pin. D2, in combination with the D0 pin and D1 pin, controls the current limit and battery charger functions of the LTC4098/LTC4098-1 (see Table 1). This pin is pulled low by a weak current sink.", 18 WALL (in) "External Power Source Sense Input. WALL should be connected to the output of the external high voltage switching regulator and to the drain of an external P-channel MOS transistor. It is used to determine when power is (See Datasheet)", 19 ~{ACPR} (out) "External Power Source Present Output (Active Low). A\C\P\R\ indicates that the output of the external high voltage step-down switching regulator is suitable for use by the LTC4098/LTC4098-1. It should be connected to the (See Datasheet)", 20 VC "Bat-Track External Switching Regulator Control Output. This pin drives the VC pin of a Linear Technology external step-down switching regulator. In concert with WALL and A\C\P\R\, it will regulate VOUT to maximize battery (See Datasheet)", 21 EP (power) "Ground. The Exposed Pad must be soldered to the PCB."

## LTC4098EUDC#TRPBF
designator U?
USB Compatible Switching Power Manager / Li-Ion Charger with Overvoltage Protection, 4.35 to 5.5 V Vin, 20-pin QFN (UDC-20), -40 to 85 degC, Pb-Free, Tape and Reel; Manufacturer: Linear Technology; PartNumber: LTC4098EUDC#TRPBF; Number of Cells: 1; Vin Max(V): 5.5; Vin Min(V): 4.35; DatasheetVersion: Rev. C; PackageVersion: Rev. Ø, 06/2010; PackageReference: UDC20; PackageDescription: 20-Pin Plastic QFN, Body 3 x 4 mm, Pitch 0.5 mm; Supplier 1: Digi-Key; Supplier Part Number 1: LTC4098EUDC#TRPBF-ND; Number of Outputs: 1; Packing: Tape and Reel; RoHS: TRUE; Mounting Technology: Surface Mount; ComponentLink1Description: Manufacturer URL; ComponentLink1URL: http://www.linear.com/; ComponentLink2Description: Datasheet; ComponentLink2URL: http://cds.linear.com/docs/en/datasheet/40981fc.pdf; ComponentLink3Description: Package Specification; ComponentLink3URL: http://cds.linear.com/docs/en/packaging/QFN_20_05-08-1742.pdf
footprint LT-UDC-20_N (QFN, 20-Leads, Body 4.1x3.1mm, Pitch 0.5mm, Thermal Pad 2.65x1.65mm, IPC Medium Density)
footprint LT-UDC-20_L (QFN, 20-Leads, Body 4.1x3.1mm, Pitch 0.5mm, Thermal Pad 2.65x1.65mm, IPC High Density)
footprint LT-UDC-20_M (QFN, 20-Leads, Body 4.1x3.1mm, Pitch 0.5mm, Thermal Pad 2.65x1.65mm, IPC Low Density)
pins: 1 OVSENS (in) "Overvoltage Protection Sense Input. OVSENS should be connected through a 6.04k resistor to the input power connector and the drain of an external N-channel MOS pass transistor. When the voltage on this pin exceeds a preset (See Datasheet)", 2 OVGATE (out) "Overvoltage Protection Gate Output. Connect OVGATE to the gate pin of an external N-channel MOS pass transistor. The source of the transistor should be connected to VBUS and the drain should be connected to the product’(See Datasheet)", 3 CLPROG (in) "USB Current Limit Program and Monitor Pin. A 1% resistor from CLPROG to ground determines the upper limit of the current drawn from the VBUS pin. A precise fraction of the input current, hCLPROG, is sent to the CLPROG pin (See Datasheet)", 4 NTCBIAS "NTC Thermistor Bias Output. If NTC operation is desired, connect a bias resistor between NTCBIAS and NTC, and an NTC thermistor between NTC and GND. To disable NTC operation, connect NTC to GND and leave NTCBIAS open.", 5 NTC (in) "Input to the NTC Thermistor Monitoring Circuits. The NTC pin connects to a negative temperature coefficient thermistor which is typically co-packaged with the battery pack to determine if the battery is too hot or too cold (See Datasheet)", 6 BATSENS (in) "Battery Voltage Sense Input. For proper operation, this pin must always be connected to BAT. For best performance, connect BATSENS to BAT physically close to the Li-Ion cell.", 7 PROG (in) "Charge Current Program and Charge Current Monitor Pin. Connecting a 1% resistor from PROG to ground programs the charge current. If sufficient input power is available in constant-current mode, this pin servos to 1V. The (See Datasheet)", 8 ~{CHRG} (hiz) "Open-Drain Charge Status Output. The C\H\R\G\ pin indicates the status of the battery charger. Four possible states are represented by C\H\R\G\: charging, not charging, unresponsive battery and battery temperature out of (See Datasheet)", 9 GND (power) "Exposed Pad and pin must be soldered to the PCB to provide a low electrical and thermal impedance connection to ground.", 10 IDGATE (out) "Ideal Diode Amplifier Output. This pincontrols the gate of an external P-channel MOSFET transistor used to supplement the internal ideal diode. The source of the P-channel MOSFET should be connected to VOUT and the drain (See Datasheet)", 11 BAT (power) "Single-Cell Li-Ion Battery Pin. Depending on available power and load, a Li-Ion battery on BAT will either deliver system power to VOUT through the ideal diode or be charged from the battery charger. The LTC4098 will charge (See Datasheet)", 12 VOUT (power) "Output Voltage of the Switching PowerPath Controller and Input Voltage of the Battery Charger. The majority of the portable product should be powered from VOUT. The LTC4098/LTC4098-1 will partition the available power (See Datasheet)", 13 VBUS (power) "Input Voltage for the Switching PowerPath Controller. VBUS will usually be connected to the USB port of a computer or a DC output wall adapter. VBUS should be bypassed with a low impedance multilayer ceramic capacitor.", 14 SW (power) "The SW pin delivers power from VBUS to VOUT via the step-down switching regulator. An inductor should be connected from SW to VOUT. See the Applications Information section for a discussion of inductance value and current (See Datasheet)", 15 D0 (in) "Mode Select Input Pin. D0, in combination with the D1 pin and the D2 pin, controls the current limit and battery charger functions of the LTC4098/LTC4098-1 (see Table 1). This pin is pulled low by a weak current sink.", 16 D1 (in) "Mode Select Input Pin. D1, in combination with the D0 pin and the D2 pin, controls the current limit and battery charger functions of the LTC4098/LTC4098-1 (see Table 1). This pin is pulled low by a weak current sink.", 17 D2 (in) "Mode Select Input Pin. D2, in combination with the D0 pin and D1 pin, controls the current limit and battery charger functions of the LTC4098/LTC4098-1 (see Table 1). This pin is pulled low by a weak current sink.", 18 WALL (in) "External Power Source Sense Input. WALL should be connected to the output of the external high voltage switching regulator and to the drain of an external P-channel MOS transistor. It is used to determine when power is (See Datasheet)", 19 ~{ACPR} (out) "External Power Source Present Output (Active Low). A\C\P\R\ indicates that the output of the external high voltage step-down switching regulator is suitable for use by the LTC4098/LTC4098-1. It should be connected to the (See Datasheet)", 20 VC "Bat-Track External Switching Regulator Control Output. This pin drives the VC pin of a Linear Technology external step-down switching regulator. In concert with WALL and A\C\P\R\, it will regulate VOUT to maximize battery (See Datasheet)", 21 EP (power) "Ground. The Exposed Pad must be soldered to the PCB."

## LTC4098EUDC-1#PBF
designator U?
USB Compatible Switching Power Manager / Li-Ion Charger with Overvoltage Protection, 4.35 to 5.5 V Vin, 20-pin QFN (UDC-20), -40 to 85 degC, Pb-Free; Manufacturer: Linear Technology; PartNumber: LTC4098EUDC-1#PBF; Number of Cells: 1; Vin Max(V): 5.5; Vin Min(V): 4.35; DatasheetVersion: Rev. C; PackageVersion: Rev. Ø, 06/2010; PackageReference: UDC20; PackageDescription: 20-Pin Plastic QFN, Body 3 x 4 mm, Pitch 0.5 mm; Supplier 1: Digi-Key; Supplier Part Number 1: LTC4098EUDC-1#PBF-ND; Number of Outputs: 1; RoHS: TRUE; Mounting Technology: Surface Mount; ComponentLink1Description: Manufacturer URL; ComponentLink1URL: http://www.linear.com/; ComponentLink2Description: Datasheet; ComponentLink2URL: http://cds.linear.com/docs/en/datasheet/40981fc.pdf; ComponentLink3Description: Package Specification; ComponentLink3URL: http://cds.linear.com/docs/en/packaging/QFN_20_05-08-1742.pdf
footprint LT-UDC-20_N (QFN, 20-Leads, Body 4.1x3.1mm, Pitch 0.5mm, Thermal Pad 2.65x1.65mm, IPC Medium Density)
footprint LT-UDC-20_L (QFN, 20-Leads, Body 4.1x3.1mm, Pitch 0.5mm, Thermal Pad 2.65x1.65mm, IPC High Density)
footprint LT-UDC-20_M (QFN, 20-Leads, Body 4.1x3.1mm, Pitch 0.5mm, Thermal Pad 2.65x1.65mm, IPC Low Density)
pins: 1 OVSENS (in), 2 OVGATE (out), 3 CLPROG (in) "USB Current Limit Program and Monitor Pin. A 1% resistor from CLPROG to ground determines the upper limit of the current drawn from the VBUS pin. A precise fraction of the input current, hCLPROG, is sent to the CLPROG pin (See Datasheet)", 4 NTCBIAS "NTC Thermistor Bias Output. If NTC operation is desired, connect a bias resistor between NTCBIAS and NTC, and an NTC thermistor between NTC and GND. To disable NTC operation, connect NTC to GND and leave NTCBIAS open.", 5 NTC (in) "Input to the NTC Thermistor Monitoring Circuits. The NTC pin connects to a negative temperature coefficient thermistor which is typically co-packaged with the battery pack to determine if the battery is too hot or too cold (See Datasheet)", 6 BATSENS (in), 7 PROG (in) "Charge Current Program and Charge Current Monitor Pin. Connecting a 1% resistor from PROG to ground programs the charge current. If sufficient input power is available in constant-current mode, this pin servos to 1V.", 8 ~{CHRG} (hiz) "Open-Drain Charge Status Output. The C\H\R\G\ pin indicates the status of the battery charger. Four possible states are represented by C\H\R\G\: charging, not charging, unresponsive battery and battery temperature out of (See Datasheet)", 9 GND (power), 10 IDGATE (out) "Ideal Diode Amplifier Output. This pin controls the gate of an external P-channel MOSFET transistor used to supplement the internal ideal diode. The source of the P-channel MOSFET should be connected to VOUT and the drain (See Datasheet)", 11 BAT (power), 12 VOUT (power), 13 VBUS (power) "Input Voltage for the Switching PowerPath Controller. VBUS will usually be connected to the USB port of a computer or a DC output wall adapter. VBUS should be bypassed with a low impedance multilayer ceramic capacitor.", 14 SW (power) "The SW pin delivers power from VBUS to VOUT via the step-down switching regulator. An inductor should be connected from SW to VOUT . See the Applications Information section for a discussion of inductance value and current (See Datasheet)", 15 D0 (in), 16 D1 (in), 17 D2 (in), 18 WALL (in), 19 ~{ACPR} (out), 20 VC "Bat-Track External Switching Regulator Control Output. This pin drives the VC pin of a Linear Technology external step-down switching regulator. In concert with WALL and A\C\P\R\, it will regulate VOUT to maximize battery (See Datasheet)", 21 EP (power)